# Altium schematic symbol library jlcpcb_2025_04_ferrites_extended_0402.schlib: 536 symbols (part 6 of 10)
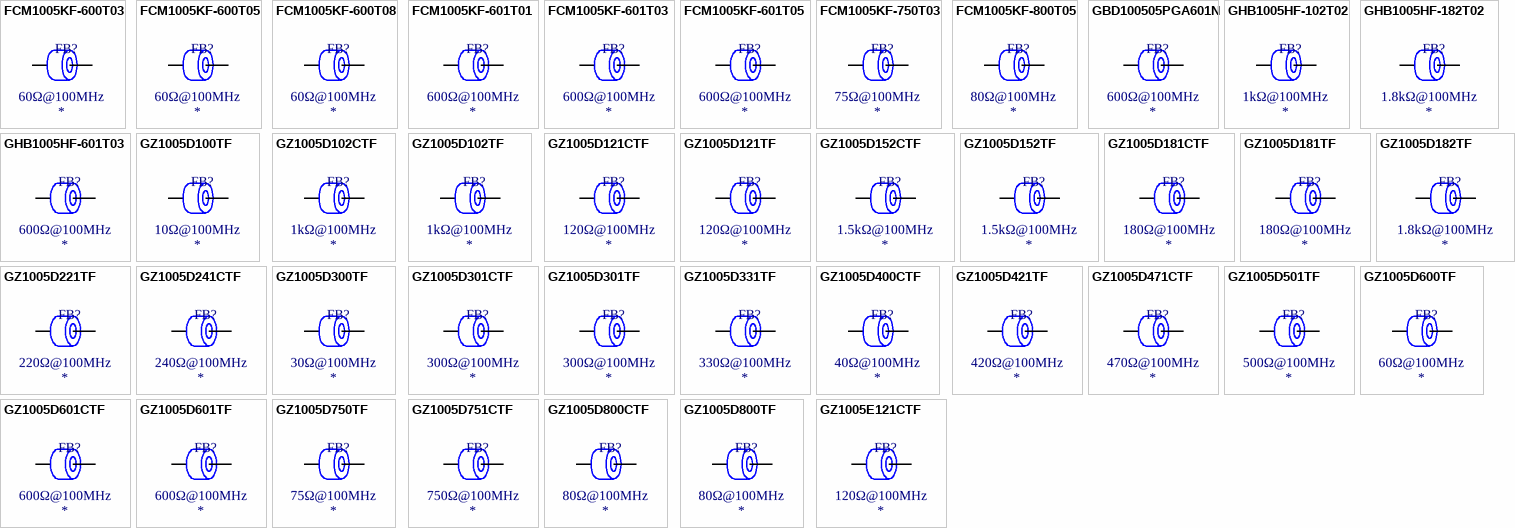
[diagram p18: symbols FCM1005KF-600T03 to GZ1005E121CTF]

## GZ1005D800CTF
designator FB?  Impedance @ Frequency: 80Ω@100MHz
Ferrite, 80Ω@100MHz, ±25%, 160mΩ, 450mA, SMD 0402; Manufacturer: Sunlord; Manufacturer Part Number: GZ1005D800CTF; Package Size: 0402; JLCPCB Basic Part: No; JLCPCB Part Number: C361550; Supplier 1: LCSC; Category: Ferrite Beads; Supplier Part Number 1: C361550; Tolerance: ±25%; Rated Current: 450mA; DC Resistance: 160mΩ; RoHS: Yes; ComponentLink1Description: Datasheet; ComponentLink1URL: https://wmsc.lcsc.com/wmsc/upload/file/pdf/v2/lcsc/2310301640_Sunlord-GZ1005D800CTF_C361550.pdf; ComponentLink2Description: JLCPCB Part URL; ComponentLink2URL: https://jlcpcb.com/partdetail/C361550; ComponentLink3Description: LCSC Part URL; ComponentLink3URL: https://lcsc.com/product-detail/Ferrite-Beads_Sunlord-Sunlord-GZ1005D800CTF_C361550.html
footprint FB-0402 (0402 (1005M) Ferrite)
pins: 1, 2

## GZ1005D800TF
designator FB?  Impedance @ Frequency: 80Ω@100MHz
Ferrite, 80Ω@100MHz, ±25%, 350mΩ, 200mA, SMD 0402; Manufacturer: Sunlord; Manufacturer Part Number: GZ1005D800TF; Package Size: 0402; JLCPCB Basic Part: No; JLCPCB Part Number: C96685; Supplier 1: LCSC; Category: Ferrite Beads; Supplier Part Number 1: C96685; Tolerance: ±25%; Rated Current: 200mA; DC Resistance: 350mΩ; RoHS: Yes; ComponentLink1Description: Datasheet; ComponentLink1URL: https://wmsc.lcsc.com/wmsc/upload/file/pdf/v2/lcsc/2310301640_Sunlord-GZ1005D800TF_C96685.pdf; ComponentLink2Description: JLCPCB Part URL; ComponentLink2URL: https://jlcpcb.com/partdetail/C96685; ComponentLink3Description: LCSC Part URL; ComponentLink3URL: https://lcsc.com/product-detail/Ferrite-Beads_Sunlord-Sunlord-GZ1005D800TF_C96685.html
footprint FB-0402 (0402 (1005M) Ferrite)
pins: 1, 2

## GZ1005E121CTF
designator FB?  Impedance @ Frequency: 120Ω@100MHz
Ferrite, 120Ω@100MHz, ±25%, 250mΩ, 500mA, SMD 0402; Manufacturer: Sunlord; Manufacturer Part Number: GZ1005E121CTF; Package Size: 0402; JLCPCB Basic Part: No; JLCPCB Part Number: C361554; Supplier 1: LCSC; Category: Ferrite Beads; Supplier Part Number 1: C361554; Tolerance: ±25%; Rated Current: 500mA; DC Resistance: 250mΩ; RoHS: Yes; ComponentLink1Description: Datasheet; ComponentLink1URL: https://wmsc.lcsc.com/wmsc/upload/file/pdf/v2/lcsc/2310301640_Sunlord-GZ1005E121CTF_C361554.pdf; ComponentLink2Description: JLCPCB Part URL; ComponentLink2URL: https://jlcpcb.com/partdetail/C361554; ComponentLink3Description: LCSC Part URL; ComponentLink3URL: https://lcsc.com/product-detail/Ferrite-Beads_Sunlord-Sunlord-GZ1005E121CTF_C361554.html
footprint FB-0402 (0402 (1005M) Ferrite)
pins: 1, 2

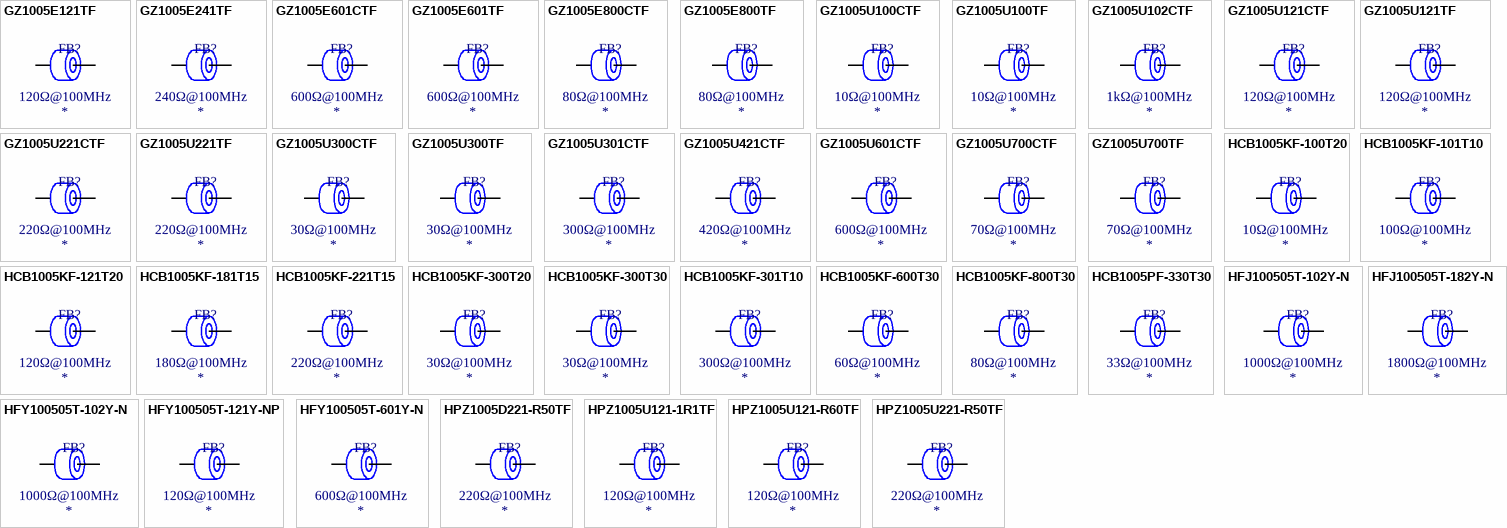
[diagram p7: symbols GZ1005E121TF to HPZ1005U221-R50TF]

## GZ1005E121TF
designator FB?  Impedance @ Frequency: 120Ω@100MHz
Ferrite, 120Ω@100MHz, ±25%, 400mΩ, 200mA, SMD 0402; Manufacturer: Sunlord; Manufacturer Part Number: GZ1005E121TF; Package Size: 0402; JLCPCB Basic Part: No; JLCPCB Part Number: C361514; Supplier 1: LCSC; Category: Ferrite Beads; Supplier Part Number 1: C361514; Tolerance: ±25%; Rated Current: 200mA; DC Resistance: 400mΩ; RoHS: Yes; ComponentLink1Description: Datasheet; ComponentLink1URL: https://wmsc.lcsc.com/wmsc/upload/file/pdf/v2/lcsc/2310301640_Sunlord-GZ1005E121TF_C361514.pdf; ComponentLink2Description: JLCPCB Part URL; ComponentLink2URL: https://jlcpcb.com/partdetail/C361514; ComponentLink3Description: LCSC Part URL; ComponentLink3URL: https://lcsc.com/product-detail/Ferrite-Beads_Sunlord-Sunlord-GZ1005E121TF_C361514.html
footprint FB-0402 (0402 (1005M) Ferrite)
pins: 1, 2

## GZ1005E241TF
designator FB?  Impedance @ Frequency: 240Ω@100MHz
Ferrite, 240Ω@100MHz, ±25%, 500mΩ, 200mA, SMD 0402; Manufacturer: Sunlord; Manufacturer Part Number: GZ1005E241TF; Package Size: 0402; JLCPCB Basic Part: No; JLCPCB Part Number: C279864; Supplier 1: LCSC; Category: Ferrite Beads; Supplier Part Number 1: C279864; Tolerance: ±25%; Rated Current: 200mA; DC Resistance: 500mΩ; RoHS: Yes; ComponentLink1Description: Datasheet; ComponentLink1URL: https://wmsc.lcsc.com/wmsc/upload/file/pdf/v2/lcsc/2310301640_Sunlord-GZ1005E241TF_C279864.pdf; ComponentLink2Description: JLCPCB Part URL; ComponentLink2URL: https://jlcpcb.com/partdetail/C279864; ComponentLink3Description: LCSC Part URL; ComponentLink3URL: https://lcsc.com/product-detail/Ferrite-Beads_Sunlord-Sunlord-GZ1005E241TF_C279864.html
footprint FB-0402 (0402 (1005M) Ferrite)
pins: 1, 2

## GZ1005E601CTF
designator FB?  Impedance @ Frequency: 600Ω@100MHz
Ferrite, 600Ω@100MHz, ±25%, 600mΩ, 300mA, SMD 0402; Manufacturer: Sunlord; Manufacturer Part Number: GZ1005E601CTF; Package Size: 0402; JLCPCB Basic Part: No; JLCPCB Part Number: C361555; Supplier 1: LCSC; Category: Ferrite Beads; Supplier Part Number 1: C361555; Tolerance: ±25%; Rated Current: 300mA; DC Resistance: 600mΩ; RoHS: Yes; ComponentLink1Description: Datasheet; ComponentLink1URL: https://wmsc.lcsc.com/wmsc/upload/file/pdf/v2/lcsc/2310301640_Sunlord-GZ1005E601CTF_C361555.pdf; ComponentLink2Description: JLCPCB Part URL; ComponentLink2URL: https://jlcpcb.com/partdetail/C361555; ComponentLink3Description: LCSC Part URL; ComponentLink3URL: https://lcsc.com/product-detail/Ferrite-Beads_Sunlord-Sunlord-GZ1005E601CTF_C361555.html
footprint FB-0402 (0402 (1005M) Ferrite)
pins: 1, 2

## GZ1005E601TF
designator FB?  Impedance @ Frequency: 600Ω@100MHz
Ferrite, 600Ω@100MHz, ±25%, 900mΩ, 100mA, SMD 0402; Manufacturer: Sunlord; Manufacturer Part Number: GZ1005E601TF; Package Size: 0402; JLCPCB Basic Part: No; JLCPCB Part Number: C98261; Supplier 1: LCSC; Category: Ferrite Beads; Supplier Part Number 1: C98261; Tolerance: ±25%; Rated Current: 100mA; DC Resistance: 900mΩ; RoHS: Yes; ComponentLink1Description: Datasheet; ComponentLink1URL: https://wmsc.lcsc.com/wmsc/upload/file/pdf/v2/lcsc/2310301640_Sunlord-GZ1005E601TF_C98261.pdf; ComponentLink2Description: JLCPCB Part URL; ComponentLink2URL: https://jlcpcb.com/partdetail/C98261; ComponentLink3Description: LCSC Part URL; ComponentLink3URL: https://lcsc.com/product-detail/Ferrite-Beads_Sunlord-Sunlord-GZ1005E601TF_C98261.html
footprint FB-0402 (0402 (1005M) Ferrite)
pins: 1, 2

## GZ1005E800CTF
designator FB?  Impedance @ Frequency: 80Ω@100MHz
Ferrite, 80Ω@100MHz, ±25%, 200mΩ, 500mA, SMD 0402; Manufacturer: Sunlord; Manufacturer Part Number: GZ1005E800CTF; Package Size: 0402; JLCPCB Basic Part: No; JLCPCB Part Number: C361553; Supplier 1: LCSC; Category: Ferrite Beads; Supplier Part Number 1: C361553; Tolerance: ±25%; Rated Current: 500mA; DC Resistance: 200mΩ; RoHS: Yes; ComponentLink1Description: Datasheet; ComponentLink1URL: https://wmsc.lcsc.com/wmsc/upload/file/pdf/v2/lcsc/2310301640_Sunlord-GZ1005E800CTF_C361553.pdf; ComponentLink2Description: JLCPCB Part URL; ComponentLink2URL: https://jlcpcb.com/partdetail/C361553; ComponentLink3Description: LCSC Part URL; ComponentLink3URL: https://lcsc.com/product-detail/Ferrite-Beads_Sunlord-Sunlord-GZ1005E800CTF_C361553.html
footprint FB-0402 (0402 (1005M) Ferrite)
pins: 1, 2

## GZ1005E800TF
designator FB?  Impedance @ Frequency: 80Ω@100MHz
Ferrite, 80Ω@100MHz, ±25%, 350mΩ, 200mA, SMD 0402; Manufacturer: Sunlord; Manufacturer Part Number: GZ1005E800TF; Package Size: 0402; JLCPCB Basic Part: No; JLCPCB Part Number: C361513; Supplier 1: LCSC; Category: Ferrite Beads; Supplier Part Number 1: C361513; Tolerance: ±25%; Rated Current: 200mA; DC Resistance: 350mΩ; RoHS: Yes; ComponentLink1Description: Datasheet; ComponentLink1URL: https://wmsc.lcsc.com/wmsc/upload/file/pdf/v2/lcsc/2310301640_Sunlord-GZ1005E800TF_C361513.pdf; ComponentLink2Description: JLCPCB Part URL; ComponentLink2URL: https://jlcpcb.com/partdetail/C361513; ComponentLink3Description: LCSC Part URL; ComponentLink3URL: https://lcsc.com/product-detail/Ferrite-Beads_Sunlord-Sunlord-GZ1005E800TF_C361513.html
footprint FB-0402 (0402 (1005M) Ferrite)
pins: 1, 2

## GZ1005U100CTF
designator FB?  Impedance @ Frequency: 10Ω@100MHz
Ferrite, 10Ω@100MHz, 30mΩ, 1A, SMD 0402; Manufacturer: Sunlord; Manufacturer Part Number: GZ1005U100CTF; Package Size: 0402; JLCPCB Basic Part: No; JLCPCB Part Number: C96686; Supplier 1: LCSC; Category: Ferrite Beads; Supplier Part Number 1: C96686; Rated Current: 1A; DC Resistance: 30mΩ; RoHS: Yes; ComponentLink1Description: Datasheet; ComponentLink1URL: https://wmsc.lcsc.com/wmsc/upload/file/pdf/v2/lcsc/2310301640_Sunlord-GZ1005U100CTF_C96686.pdf; ComponentLink2Description: JLCPCB Part URL; ComponentLink2URL: https://jlcpcb.com/partdetail/C96686; ComponentLink3Description: LCSC Part URL; ComponentLink3URL: https://lcsc.com/product-detail/Ferrite-Beads_Sunlord-Sunlord-GZ1005U100CTF_C96686.html
pins: 1, 2

## GZ1005U100TF
designator FB?  Impedance @ Frequency: 10Ω@100MHz
Ferrite, 10Ω@100MHz, 50mΩ, 500mA, SMD 0402; Manufacturer: Sunlord; Manufacturer Part Number: GZ1005U100TF; Package Size: 0402; JLCPCB Basic Part: No; JLCPCB Part Number: C279964; Supplier 1: LCSC; Category: Ferrite Beads; Supplier Part Number 1: C279964; Rated Current: 500mA; DC Resistance: 50mΩ; RoHS: Yes; ComponentLink1Description: Datasheet; ComponentLink1URL: https://wmsc.lcsc.com/wmsc/upload/file/pdf/v2/lcsc/2310301640_Sunlord-GZ1005U100TF_C279964.pdf; ComponentLink2Description: JLCPCB Part URL; ComponentLink2URL: https://jlcpcb.com/partdetail/C279964; ComponentLink3Description: LCSC Part URL; ComponentLink3URL: https://lcsc.com/product-detail/Ferrite-Beads_Sunlord-Sunlord-GZ1005U100TF_C279964.html
pins: 1, 2

## GZ1005U102CTF
designator FB?  Impedance @ Frequency: 1kΩ@100MHz
Ferrite, 1kΩ@100MHz, ±25%, 580mΩ, 300mA, SMD 0402; Manufacturer: Sunlord; Manufacturer Part Number: GZ1005U102CTF; Package Size: 0402; JLCPCB Basic Part: No; JLCPCB Part Number: C96687; Supplier 1: LCSC; Category: Ferrite Beads; Supplier Part Number 1: C96687; Tolerance: ±25%; Rated Current: 300mA; DC Resistance: 580mΩ; RoHS: Yes; ComponentLink1Description: Datasheet; ComponentLink1URL: https://wmsc.lcsc.com/wmsc/upload/file/pdf/v2/lcsc/2310301640_Sunlord-GZ1005U102CTF_C96687.pdf; ComponentLink2Description: JLCPCB Part URL; ComponentLink2URL: https://jlcpcb.com/partdetail/C96687; ComponentLink3Description: LCSC Part URL; ComponentLink3URL: https://lcsc.com/product-detail/Ferrite-Beads_Sunlord-Sunlord-GZ1005U102CTF_C96687.html
footprint FB-0402 (0402 (1005M) Ferrite)
pins: 1, 2

## GZ1005U121CTF
designator FB?  Impedance @ Frequency: 120Ω@100MHz
Ferrite, 120Ω@100MHz, ±25%, 200mΩ, 500mA, SMD 0402; Manufacturer: Sunlord; Manufacturer Part Number: GZ1005U121CTF; Package Size: 0402; JLCPCB Basic Part: No; JLCPCB Part Number: C96688; Supplier 1: LCSC; Category: Ferrite Beads; Supplier Part Number 1: C96688; Tolerance: ±25%; Rated Current: 500mA; DC Resistance: 200mΩ; RoHS: Yes; ComponentLink1Description: Datasheet; ComponentLink1URL: https://wmsc.lcsc.com/wmsc/upload/file/pdf/v2/lcsc/2310301640_Sunlord-GZ1005U121CTF_C96688.pdf; ComponentLink2Description: JLCPCB Part URL; ComponentLink2URL: https://jlcpcb.com/partdetail/C96688; ComponentLink3Description: LCSC Part URL; ComponentLink3URL: https://lcsc.com/product-detail/Ferrite-Beads_Sunlord-Sunlord-GZ1005U121CTF_C96688.html
footprint FB-0402 (0402 (1005M) Ferrite)
pins: 1, 2

## GZ1005U121TF
designator FB?  Impedance @ Frequency: 120Ω@100MHz
Ferrite, 120Ω@100MHz, ±25%, 400mΩ, 200mA, SMD 0402; Manufacturer: Sunlord; Manufacturer Part Number: GZ1005U121TF; Package Size: 0402; JLCPCB Basic Part: No; JLCPCB Part Number: C361515; Supplier 1: LCSC; Category: Ferrite Beads; Supplier Part Number 1: C361515; Tolerance: ±25%; Rated Current: 200mA; DC Resistance: 400mΩ; RoHS: Yes; ComponentLink1Description: Datasheet; ComponentLink1URL: https://wmsc.lcsc.com/wmsc/upload/file/pdf/v2/lcsc/2310301640_Sunlord-GZ1005U121TF_C361515.pdf; ComponentLink2Description: JLCPCB Part URL; ComponentLink2URL: https://jlcpcb.com/partdetail/C361515; ComponentLink3Description: LCSC Part URL; ComponentLink3URL: https://lcsc.com/product-detail/Ferrite-Beads_Sunlord-Sunlord-GZ1005U121TF_C361515.html
footprint FB-0402 (0402 (1005M) Ferrite)
pins: 1, 2

## GZ1005U221CTF
designator FB?  Impedance @ Frequency: 220Ω@100MHz
Ferrite, 220Ω@100MHz, ±25%, 300mΩ, 400mA, SMD 0402; Manufacturer: Sunlord; Manufacturer Part Number: GZ1005U221CTF; Package Size: 0402; JLCPCB Basic Part: No; JLCPCB Part Number: C92625; Supplier 1: LCSC; Category: Ferrite Beads; Supplier Part Number 1: C92625; Tolerance: ±25%; Rated Current: 400mA; DC Resistance: 300mΩ; RoHS: Yes; ComponentLink1Description: Datasheet; ComponentLink1URL: https://wmsc.lcsc.com/wmsc/upload/file/pdf/v2/lcsc/2310301640_Sunlord-GZ1005U221CTF_C92625.pdf; ComponentLink2Description: JLCPCB Part URL; ComponentLink2URL: https://jlcpcb.com/partdetail/C92625; ComponentLink3Description: LCSC Part URL; ComponentLink3URL: https://lcsc.com/product-detail/Ferrite-Beads_Sunlord-Sunlord-GZ1005U221CTF_C92625.html
footprint FB-0402 (0402 (1005M) Ferrite)
pins: 1, 2

## GZ1005U221TF
designator FB?  Impedance @ Frequency: 220Ω@100MHz
Ferrite, 220Ω@100MHz, ±25%, 500mΩ, 100mA, SMD 0402; Manufacturer: Sunlord; Manufacturer Part Number: GZ1005U221TF; Package Size: 0402; JLCPCB Basic Part: No; JLCPCB Part Number: C98263; Supplier 1: LCSC; Category: Ferrite Beads; Supplier Part Number 1: C98263; Tolerance: ±25%; Rated Current: 100mA; DC Resistance: 500mΩ; RoHS: Yes; ComponentLink1Description: Datasheet; ComponentLink1URL: https://wmsc.lcsc.com/wmsc/upload/file/pdf/v2/lcsc/2310301640_Sunlord-GZ1005U221TF_C98263.pdf; ComponentLink2Description: JLCPCB Part URL; ComponentLink2URL: https://jlcpcb.com/partdetail/C98263; ComponentLink3Description: LCSC Part URL; ComponentLink3URL: https://lcsc.com/product-detail/Ferrite-Beads_Sunlord-Sunlord-GZ1005U221TF_C98263.html
footprint FB-0402 (0402 (1005M) Ferrite)
pins: 1, 2

## GZ1005U300CTF
designator FB?  Impedance @ Frequency: 30Ω@100MHz
Ferrite, 30Ω@100MHz, ±25%, 60mΩ, 700mA, SMD 0402; Manufacturer: Sunlord; Manufacturer Part Number: GZ1005U300CTF; Package Size: 0402; JLCPCB Basic Part: No; JLCPCB Part Number: C96689; Supplier 1: LCSC; Category: Ferrite Beads; Supplier Part Number 1: C96689; Tolerance: ±25%; Rated Current: 700mA; DC Resistance: 60mΩ; RoHS: Yes; ComponentLink1Description: Datasheet; ComponentLink1URL: https://wmsc.lcsc.com/wmsc/upload/file/pdf/v2/lcsc/2310301640_Sunlord-GZ1005U300CTF_C96689.pdf; ComponentLink2Description: JLCPCB Part URL; ComponentLink2URL: https://jlcpcb.com/partdetail/C96689; ComponentLink3Description: LCSC Part URL; ComponentLink3URL: https://lcsc.com/product-detail/Ferrite-Beads_Sunlord-Sunlord-GZ1005U300CTF_C96689.html
footprint FB-0402 (0402 (1005M) Ferrite)
pins: 1, 2

## GZ1005U300TF
designator FB?  Impedance @ Frequency: 30Ω@100MHz
Ferrite, 30Ω@100MHz, ±25%, 200mΩ, 300mA, SMD 0402; Manufacturer: Sunlord; Manufacturer Part Number: GZ1005U300TF; Package Size: 0402; JLCPCB Basic Part: No; JLCPCB Part Number: C98262; Supplier 1: LCSC; Category: Ferrite Beads; Supplier Part Number 1: C98262; Tolerance: ±25%; Rated Current: 300mA; DC Resistance: 200mΩ; RoHS: Yes; ComponentLink1Description: Datasheet; ComponentLink1URL: https://wmsc.lcsc.com/wmsc/upload/file/pdf/v2/lcsc/2310301640_Sunlord-GZ1005U300TF_C98262.pdf; ComponentLink2Description: JLCPCB Part URL; ComponentLink2URL: https://jlcpcb.com/partdetail/C98262; ComponentLink3Description: LCSC Part URL; ComponentLink3URL: https://lcsc.com/product-detail/Ferrite-Beads_Sunlord-Sunlord-GZ1005U300TF_C98262.html
footprint FB-0402 (0402 (1005M) Ferrite)
pins: 1, 2

## GZ1005U301CTF
designator FB?  Impedance @ Frequency: 300Ω@100MHz
Ferrite, 300Ω@100MHz, ±25%, 500mΩ, 300mA, SMD 0402; Manufacturer: Sunlord; Manufacturer Part Number: GZ1005U301CTF; Package Size: 0402; JLCPCB Basic Part: No; JLCPCB Part Number: C96690; Supplier 1: LCSC; Category: Ferrite Beads; Supplier Part Number 1: C96690; Tolerance: ±25%; Rated Current: 300mA; DC Resistance: 500mΩ; RoHS: Yes; ComponentLink1Description: Datasheet; ComponentLink1URL: https://wmsc.lcsc.com/wmsc/upload/file/pdf/v2/lcsc/2310301640_Sunlord-GZ1005U301CTF_C96690.pdf; ComponentLink2Description: JLCPCB Part URL; ComponentLink2URL: https://jlcpcb.com/partdetail/C96690; ComponentLink3Description: LCSC Part URL; ComponentLink3URL: https://lcsc.com/product-detail/Ferrite-Beads_Sunlord-Sunlord-GZ1005U301CTF_C96690.html
footprint FB-0402 (0402 (1005M) Ferrite)
pins: 1, 2

## GZ1005U421CTF
designator FB?  Impedance @ Frequency: 420Ω@100MHz
Ferrite, 420Ω@100MHz, ±25%, 520mΩ, 300mA, SMD 0402; Manufacturer: Sunlord; Manufacturer Part Number: GZ1005U421CTF; Package Size: 0402; JLCPCB Basic Part: No; JLCPCB Part Number: C361556; Supplier 1: LCSC; Category: Ferrite Beads; Supplier Part Number 1: C361556; Tolerance: ±25%; Rated Current: 300mA; DC Resistance: 520mΩ; RoHS: Yes; ComponentLink1Description: Datasheet; ComponentLink1URL: https://wmsc.lcsc.com/wmsc/upload/file/pdf/v2/lcsc/2310301640_Sunlord-GZ1005U421CTF_C361556.pdf; ComponentLink2Description: JLCPCB Part URL; ComponentLink2URL: https://jlcpcb.com/partdetail/C361556; ComponentLink3Description: LCSC Part URL; ComponentLink3URL: https://lcsc.com/product-detail/Ferrite-Beads_Sunlord-Sunlord-GZ1005U421CTF_C361556.html
footprint FB-0402 (0402 (1005M) Ferrite)
pins: 1, 2

## GZ1005U601CTF
designator FB?  Impedance @ Frequency: 600Ω@100MHz
Ferrite, 600Ω@100MHz, ±25%, 550mΩ, 300mA, SMD 0402; Manufacturer: Sunlord; Manufacturer Part Number: GZ1005U601CTF; Package Size: 0402; JLCPCB Basic Part: No; JLCPCB Part Number: C96691; Supplier 1: LCSC; Category: Ferrite Beads; Supplier Part Number 1: C96691; Tolerance: ±25%; Rated Current: 300mA; DC Resistance: 550mΩ; RoHS: Yes; ComponentLink1Description: Datasheet; ComponentLink1URL: https://wmsc.lcsc.com/wmsc/upload/file/pdf/v2/lcsc/2310301640_Sunlord-GZ1005U601CTF_C96691.pdf; ComponentLink2Description: JLCPCB Part URL; ComponentLink2URL: https://jlcpcb.com/partdetail/C96691; ComponentLink3Description: LCSC Part URL; ComponentLink3URL: https://lcsc.com/product-detail/Ferrite-Beads_Sunlord-Sunlord-GZ1005U601CTF_C96691.html
footprint FB-0402 (0402 (1005M) Ferrite)
pins: 1, 2

## GZ1005U700CTF
designator FB?  Impedance @ Frequency: 70Ω@100MHz
Ferrite, 70Ω@100MHz, ±25%, 100mΩ, 700mA, SMD 0402; Manufacturer: Sunlord; Manufacturer Part Number: GZ1005U700CTF; Package Size: 0402; JLCPCB Basic Part: No; JLCPCB Part Number: C96692; Supplier 1: LCSC; Category: Ferrite Beads; Supplier Part Number 1: C96692; Tolerance: ±25%; Rated Current: 700mA; DC Resistance: 100mΩ; RoHS: Yes; ComponentLink1Description: Datasheet; ComponentLink1URL: https://wmsc.lcsc.com/wmsc/upload/file/pdf/v2/lcsc/2310301640_Sunlord-GZ1005U700CTF_C96692.pdf; ComponentLink2Description: JLCPCB Part URL; ComponentLink2URL: https://jlcpcb.com/partdetail/C96692; ComponentLink3Description: LCSC Part URL; ComponentLink3URL: https://lcsc.com/product-detail/Ferrite-Beads_Sunlord-Sunlord-GZ1005U700CTF_C96692.html
footprint FB-0402 (0402 (1005M) Ferrite)
pins: 1, 2

## GZ1005U700TF
designator FB?  Impedance @ Frequency: 70Ω@100MHz
Ferrite, 70Ω@100MHz, ±25%, 300mΩ, 200mA, SMD 0402; Manufacturer: Sunlord; Manufacturer Part Number: GZ1005U700TF; Package Size: 0402; JLCPCB Basic Part: No; JLCPCB Part Number: C60113; Supplier 1: LCSC; Category: Ferrite Beads; Supplier Part Number 1: C60113; Tolerance: ±25%; Rated Current: 200mA; DC Resistance: 300mΩ; RoHS: Yes; ComponentLink1Description: Datasheet; ComponentLink1URL: https://wmsc.lcsc.com/wmsc/upload/file/pdf/v2/lcsc/2310301640_Sunlord-GZ1005U700TF_C60113.pdf; ComponentLink2Description: JLCPCB Part URL; ComponentLink2URL: https://jlcpcb.com/partdetail/C60113; ComponentLink3Description: LCSC Part URL; ComponentLink3URL: https://lcsc.com/product-detail/Ferrite-Beads_Sunlord-Sunlord-GZ1005U700TF_C60113.html
footprint FB-0402 (0402 (1005M) Ferrite)
pins: 1, 2

## HCB1005KF-100T20
designator FB?  Impedance @ Frequency: 10Ω@100MHz
Ferrite, 10Ω@100MHz, ±25%, 100mΩ, 2A, SMD 0402; Manufacturer: TAI-TECH; Manufacturer Part Number: HCB1005KF-100T20; Package Size: 0402; JLCPCB Basic Part: No; JLCPCB Part Number: C356952; Supplier 1: LCSC; Category: Ferrite Beads; Supplier Part Number 1: C356952; Tolerance: ±25%; Rated Current: 2A; DC Resistance: 100mΩ; RoHS: Yes; ComponentLink1Description: Datasheet; ComponentLink1URL: https://wmsc.lcsc.com/wmsc/upload/file/pdf/v2/lcsc/2009171137_TAI-TECH-HCB1005KF-100T20_C356952.pdf; ComponentLink2Description: JLCPCB Part URL; ComponentLink2URL: https://jlcpcb.com/partdetail/C356952; ComponentLink3Description: LCSC Part URL; ComponentLink3URL: https://lcsc.com/product-detail/Ferrite-Beads_TAI-TECH-TAI-TECH-HCB1005KF-100T20_C356952.html
footprint FB-0402 (0402 (1005M) Ferrite)
pins: 1, 2

## HCB1005KF-101T10
designator FB?  Impedance @ Frequency: 100Ω@100MHz
Ferrite, 100Ω@100MHz, ±25%, 200mΩ, 1A, SMD 0402; Manufacturer: TAI-TECH; Manufacturer Part Number: HCB1005KF-101T10; Package Size: 0402; JLCPCB Basic Part: No; JLCPCB Part Number: C356953; Supplier 1: LCSC; Category: Ferrite Beads; Supplier Part Number 1: C356953; Tolerance: ±25%; Rated Current: 1A; DC Resistance: 200mΩ; RoHS: Yes; ComponentLink1Description: Datasheet; ComponentLink1URL: https://wmsc.lcsc.com/wmsc/upload/file/pdf/v2/lcsc/2009171137_TAI-TECH-HCB1005KF-101T10_C356953.pdf; ComponentLink2Description: JLCPCB Part URL; ComponentLink2URL: https://jlcpcb.com/partdetail/C356953; ComponentLink3Description: LCSC Part URL; ComponentLink3URL: https://lcsc.com/product-detail/Ferrite-Beads_TAI-TECH-TAI-TECH-HCB1005KF-101T10_C356953.html
footprint FB-0402 (0402 (1005M) Ferrite)
pins: 1, 2

## HCB1005KF-121T20
designator FB?  Impedance @ Frequency: 120Ω@100MHz
Ferrite, 120Ω@100MHz, ±25%, 95mΩ, 2A, SMD 0402; Manufacturer: TAI-TECH; Manufacturer Part Number: HCB1005KF-121T20; Package Size: 0402; JLCPCB Basic Part: No; JLCPCB Part Number: C141722; Supplier 1: LCSC; Category: Ferrite Beads; Supplier Part Number 1: C141722; Tolerance: ±25%; Rated Current: 2A; DC Resistance: 95mΩ; RoHS: Yes; ComponentLink1Description: Datasheet; ComponentLink1URL: https://wmsc.lcsc.com/wmsc/upload/file/pdf/v2/lcsc/2009171304_TAI-TECH-HCB1005KF-121T20_C141722.pdf; ComponentLink2Description: JLCPCB Part URL; ComponentLink2URL: https://jlcpcb.com/partdetail/C141722; ComponentLink3Description: LCSC Part URL; ComponentLink3URL: https://lcsc.com/product-detail/Ferrite-Beads_TAI-TECH-TAI-TECH-HCB1005KF-121T20_C141722.html
footprint FB-0402 (0402 (1005M) Ferrite)
pins: 1, 2

## HCB1005KF-181T15
designator FB?  Impedance @ Frequency: 180Ω@100MHz
Ferrite, 180Ω@100MHz, ±25%, 150mΩ, 150mA, SMD 0402; Manufacturer: TAI-TECH; Manufacturer Part Number: HCB1005KF-181T15; Package Size: 0402; JLCPCB Basic Part: No; JLCPCB Part Number: C356955; Supplier 1: LCSC; Category: Ferrite Beads; Supplier Part Number 1: C356955; Tolerance: ±25%; Rated Current: 150mA; DC Resistance: 150mΩ; RoHS: Yes; ComponentLink1Description: Datasheet; ComponentLink1URL: https://wmsc.lcsc.com/wmsc/upload/file/pdf/v2/lcsc/2109061830_TAI-TECH-HCB1005KF-181T15_C356955.pdf; ComponentLink2Description: JLCPCB Part URL; ComponentLink2URL: https://jlcpcb.com/partdetail/C356955; ComponentLink3Description: LCSC Part URL; ComponentLink3URL: https://lcsc.com/product-detail/Ferrite-Beads_TAI-TECH-TAI-TECH-HCB1005KF-181T15_C356955.html
footprint FB-0402 (0402 (1005M) Ferrite)
pins: 1, 2

## HCB1005KF-221T15
designator FB?  Impedance @ Frequency: 220Ω@100MHz
Ferrite, 220Ω@100MHz, ±25%, 150mΩ, 1.5A, SMD 0402; Manufacturer: TAI-TECH; Manufacturer Part Number: HCB1005KF-221T15; Package Size: 0402; JLCPCB Basic Part: No; JLCPCB Part Number: C155102; Supplier 1: LCSC; Category: Ferrite Beads; Supplier Part Number 1: C155102; Tolerance: ±25%; Rated Current: 1.5A; DC Resistance: 150mΩ; RoHS: Yes; ComponentLink1Description: Datasheet; ComponentLink1URL: https://wmsc.lcsc.com/wmsc/upload/file/pdf/v2/lcsc/2009171335_TAI-TECH-HCB1005KF-221T15_C155102.pdf; ComponentLink2Description: JLCPCB Part URL; ComponentLink2URL: https://jlcpcb.com/partdetail/C155102; ComponentLink3Description: LCSC Part URL; ComponentLink3URL: https://lcsc.com/product-detail/Ferrite-Beads_TAI-TECH-TAI-TECH-HCB1005KF-221T15_C155102.html
footprint FB-0402 (0402 (1005M) Ferrite)
pins: 1, 2

## HCB1005KF-300T20
designator FB?  Impedance @ Frequency: 30Ω@100MHz
Ferrite, 30Ω@100MHz, ±25%, 100mΩ, 2A, SMD 0402; Manufacturer: TAI-TECH; Manufacturer Part Number: HCB1005KF-300T20; Package Size: 0402; JLCPCB Basic Part: No; JLCPCB Part Number: C369509; Supplier 1: LCSC; Category: Ferrite Beads; Supplier Part Number 1: C369509; Tolerance: ±25%; Rated Current: 2A; DC Resistance: 100mΩ; RoHS: Yes; ComponentLink1Description: Datasheet; ComponentLink1URL: https://wmsc.lcsc.com/wmsc/upload/file/pdf/v2/lcsc/2009171441_TAI-TECH-HCB1005KF-300T20_C369509.pdf; ComponentLink2Description: JLCPCB Part URL; ComponentLink2URL: https://jlcpcb.com/partdetail/C369509; ComponentLink3Description: LCSC Part URL; ComponentLink3URL: https://lcsc.com/product-detail/Ferrite-Beads_TAI-TECH-TAI-TECH-HCB1005KF-300T20_C369509.html
footprint FB-0402 (0402 (1005M) Ferrite)
pins: 1, 2

## HCB1005KF-300T30
designator FB?  Impedance @ Frequency: 30Ω@100MHz
Ferrite, 30Ω@100MHz, ±25%, 40mΩ, 3A, SMD 0402; Manufacturer: TAI-TECH; Manufacturer Part Number: HCB1005KF-300T30; Package Size: 0402; JLCPCB Basic Part: No; JLCPCB Part Number: C356956; Supplier 1: LCSC; Category: Ferrite Beads; Supplier Part Number 1: C356956; Tolerance: ±25%; Rated Current: 3A; DC Resistance: 40mΩ; RoHS: Yes; ComponentLink1Description: Datasheet; ComponentLink1URL: https://wmsc.lcsc.com/wmsc/upload/file/pdf/v2/lcsc/2009171137_TAI-TECH-HCB1005KF-300T30_C356956.pdf; ComponentLink2Description: JLCPCB Part URL; ComponentLink2URL: https://jlcpcb.com/partdetail/C356956; ComponentLink3Description: LCSC Part URL; ComponentLink3URL: https://lcsc.com/product-detail/Ferrite-Beads_TAI-TECH-TAI-TECH-HCB1005KF-300T30_C356956.html
footprint FB-0402 (0402 (1005M) Ferrite)
pins: 1, 2

## HCB1005KF-301T10
designator FB?  Impedance @ Frequency: 300Ω@100MHz
Ferrite, 300Ω@100MHz, ±25%, 200mΩ, 1A, SMD 0402; Manufacturer: TAI-TECH; Manufacturer Part Number: HCB1005KF-301T10; Package Size: 0402; JLCPCB Basic Part: No; JLCPCB Part Number: C356957; Supplier 1: LCSC; Category: Ferrite Beads; Supplier Part Number 1: C356957; Tolerance: ±25%; Rated Current: 1A; DC Resistance: 200mΩ; RoHS: Yes; ComponentLink1Description: Datasheet; ComponentLink1URL: https://wmsc.lcsc.com/wmsc/upload/file/pdf/v2/lcsc/2009171137_TAI-TECH-HCB1005KF-301T10_C356957.pdf; ComponentLink2Description: JLCPCB Part URL; ComponentLink2URL: https://jlcpcb.com/partdetail/C356957; ComponentLink3Description: LCSC Part URL; ComponentLink3URL: https://lcsc.com/product-detail/Ferrite-Beads_TAI-TECH-TAI-TECH-HCB1005KF-301T10_C356957.html
footprint FB-0402 (0402 (1005M) Ferrite)
pins: 1, 2

## HCB1005KF-600T30
designator FB?  Impedance @ Frequency: 60Ω@100MHz
Ferrite, 60Ω@100MHz, ±25%, 40mΩ, 3A, SMD 0402; Manufacturer: TAI-TECH; Manufacturer Part Number: HCB1005KF-600T30; Package Size: 0402; JLCPCB Basic Part: No; JLCPCB Part Number: C356960; Supplier 1: LCSC; Category: Ferrite Beads; Supplier Part Number 1: C356960; Tolerance: ±25%; Rated Current: 3A; DC Resistance: 40mΩ; RoHS: Yes; ComponentLink1Description: Datasheet; ComponentLink1URL: https://wmsc.lcsc.com/wmsc/upload/file/pdf/v2/lcsc/2009171138_TAI-TECH-HCB1005KF-600T30_C356960.pdf; ComponentLink2Description: JLCPCB Part URL; ComponentLink2URL: https://jlcpcb.com/partdetail/C356960; ComponentLink3Description: LCSC Part URL; ComponentLink3URL: https://lcsc.com/product-detail/Ferrite-Beads_TAI-TECH-TAI-TECH-HCB1005KF-600T30_C356960.html
footprint FB-0402 (0402 (1005M) Ferrite)
pins: 1, 2

## HCB1005KF-800T30
designator FB?  Impedance @ Frequency: 80Ω@100MHz
Ferrite, 80Ω@100MHz, ±25%, 40mΩ, 3A, SMD 0402; Manufacturer: TAI-TECH; Manufacturer Part Number: HCB1005KF-800T30; Package Size: 0402; JLCPCB Basic Part: No; JLCPCB Part Number: C2992343; Supplier 1: LCSC; Category: Ferrite Beads; Supplier Part Number 1: C2992343; Tolerance: ±25%; Rated Current: 3A; DC Resistance: 40mΩ; RoHS: Yes; ComponentLink1Description: Datasheet; ComponentLink1URL: https://wmsc.lcsc.com/wmsc/upload/file/pdf/v2/lcsc/2204251615_TAI-TECH-HCB1005KF-800T30_C2992343.pdf; ComponentLink2Description: JLCPCB Part URL; ComponentLink2URL: https://jlcpcb.com/partdetail/C2992343; ComponentLink3Description: LCSC Part URL; ComponentLink3URL: https://lcsc.com/product-detail/Ferrite-Beads_TAI-TECH-TAI-TECH-HCB1005KF-800T30_C2992343.html
footprint FB-0402 (0402 (1005M) Ferrite)
pins: 1, 2

## HCB1005PF-330T30
designator FB?  Impedance @ Frequency: 33Ω@100MHz
Ferrite, 33Ω@100MHz, ±25%, 22mΩ, 3A, SMD 0402; Manufacturer: TAI-TECH; Manufacturer Part Number: HCB1005PF-330T30; Package Size: 0402; JLCPCB Basic Part: No; JLCPCB Part Number: C155104; Supplier 1: LCSC; Category: Ferrite Beads; Supplier Part Number 1: C155104; Tolerance: ±25%; Rated Current: 3A; DC Resistance: 22mΩ; RoHS: Yes; ComponentLink1Description: Datasheet; ComponentLink1URL: https://wmsc.lcsc.com/wmsc/upload/file/pdf/v2/lcsc/2009171335_TAI-TECH-HCB1005PF-330T30_C155104.pdf; ComponentLink2Description: JLCPCB Part URL; ComponentLink2URL: https://jlcpcb.com/partdetail/C155104; ComponentLink3Description: LCSC Part URL; ComponentLink3URL: https://lcsc.com/product-detail/Ferrite-Beads_TAI-TECH-TAI-TECH-HCB1005PF-330T30_C155104.html
footprint FB-0402 (0402 (1005M) Ferrite)
pins: 1, 2

## HFJ100505T-102Y-N
designator FB?  Impedance @ Frequency: 1000Ω@100MHz
Ferrite, 1000Ω@100MHz, ±25%, 1.25Ω, 250mA, SMD 0402; Manufacturer: Chilisin Elec; Manufacturer Part Number: HFJ100505T-102Y-N; Package Size: 0402; JLCPCB Basic Part: No; JLCPCB Part Number: C365845; Supplier 1: LCSC; Category: Ferrite Beads; Supplier Part Number 1: C365845; Tolerance: ±25%; Rated Current: 250mA; DC Resistance: 1.25Ω; RoHS: Yes; ComponentLink1Description: Datasheet; ComponentLink1URL: https://wmsc.lcsc.com/wmsc/upload/file/pdf/v2/lcsc/1912111437_Chilisin-Elec-HFJ100505T-102Y-N_C365845.pdf; ComponentLink2Description: JLCPCB Part URL; ComponentLink2URL: https://jlcpcb.com/partdetail/C365845; ComponentLink3Description: LCSC Part URL; ComponentLink3URL: https://lcsc.com/product-detail/Ferrite-Beads_Chilisin-Elec-Chilisin-Elec-HFJ100505T-102Y-N_C365845.html
footprint FB-0402 (0402 (1005M) Ferrite)
pins: 1, 2

## HFJ100505T-182Y-N
designator FB?  Impedance @ Frequency: 1800Ω@100MHz
Ferrite, 1800Ω@100MHz, ±25%, 2.2Ω, 200mA, SMD 0402; Manufacturer: Chilisin Elec; Manufacturer Part Number: HFJ100505T-182Y-N; Package Size: 0402; JLCPCB Basic Part: No; JLCPCB Part Number: C285912; Supplier 1: LCSC; Category: Ferrite Beads; Supplier Part Number 1: C285912; Tolerance: ±25%; Rated Current: 200mA; DC Resistance: 2.2Ω; RoHS: Yes; ComponentLink1Description: Datasheet; ComponentLink1URL: https://wmsc.lcsc.com/wmsc/upload/file/pdf/v2/lcsc/1912111437_Chilisin-Elec-HFJ100505T-182Y-N_C285912.pdf; ComponentLink2Description: JLCPCB Part URL; ComponentLink2URL: https://jlcpcb.com/partdetail/C285912; ComponentLink3Description: LCSC Part URL; ComponentLink3URL: https://lcsc.com/product-detail/Ferrite-Beads_Chilisin-Elec-Chilisin-Elec-HFJ100505T-182Y-N_C285912.html
footprint FB-0402 (0402 (1005M) Ferrite)
pins: 1, 2

## HFY100505T-102Y-N
designator FB?  Impedance @ Frequency: 1000Ω@100MHz
Ferrite, 1000Ω@100MHz, ±25%, 1.1Ω, 250mA, SMD 0402; Manufacturer: Chilisin Elec; Manufacturer Part Number: HFY100505T-102Y-N; Package Size: 0402; JLCPCB Basic Part: No; JLCPCB Part Number: C108276; Supplier 1: LCSC; Category: Ferrite Beads; Supplier Part Number 1: C108276; Tolerance: ±25%; Rated Current: 250mA; DC Resistance: 1.1Ω; RoHS: Yes; ComponentLink1Description: Datasheet; ComponentLink1URL: https://wmsc.lcsc.com/wmsc/upload/file/pdf/v2/lcsc/1811141628_Chilisin-Elec-HFY100505T-102Y-N_C108276.pdf; ComponentLink2Description: JLCPCB Part URL; ComponentLink2URL: https://jlcpcb.com/partdetail/C108276; ComponentLink3Description: LCSC Part URL; ComponentLink3URL: https://lcsc.com/product-detail/Ferrite-Beads_Chilisin-Elec-Chilisin-Elec-HFY100505T-102Y-N_C108276.html
footprint FB-0402 (0402 (1005M) Ferrite)
pins: 1, 2

## HFY100505T-121Y-NP
designator FB?  Impedance @ Frequency: 120Ω@100MHz
Ferrite, 120Ω@100MHz, ±25%, 0.095Ω, 1500mA, SMD 0402; Manufacturer: Chilisin Elec; Manufacturer Part Number: HFY100505T-121Y-NP; Package Size: 0402; JLCPCB Basic Part: No; JLCPCB Part Number: C108277; Supplier 1: LCSC; Category: Ferrite Beads; Supplier Part Number 1: C108277; Tolerance: ±25%; Rated Current: 1500mA; DC Resistance: 0.095Ω; RoHS: Yes; ComponentLink1Description: Datasheet; ComponentLink1URL: https://wmsc.lcsc.com/wmsc/upload/file/pdf/v2/lcsc/1811141628_Chilisin-Elec-HFY100505T-121Y-NP_C108277.pdf; ComponentLink2Description: JLCPCB Part URL; ComponentLink2URL: https://jlcpcb.com/partdetail/C108277; ComponentLink3Description: LCSC Part URL; ComponentLink3URL: https://lcsc.com/product-detail/Ferrite-Beads_Chilisin-Elec-Chilisin-Elec-HFY100505T-121Y-NP_C108277.html
footprint FB-0402 (0402 (1005M) Ferrite)
pins: 1, 2

## HFY100505T-601Y-N
designator FB?  Impedance @ Frequency: 600Ω@100MHz
Ferrite, 600Ω@100MHz, ±25%, 0.7Ω, 300mA, SMD 0402; Manufacturer: Chilisin Elec; Manufacturer Part Number: HFY100505T-601Y-N; Package Size: 0402; JLCPCB Basic Part: No; JLCPCB Part Number: C142161; Supplier 1: LCSC; Category: Ferrite Beads; Supplier Part Number 1: C142161; Tolerance: ±25%; Rated Current: 300mA; DC Resistance: 0.7Ω; RoHS: Yes; ComponentLink1Description: Datasheet; ComponentLink1URL: https://wmsc.lcsc.com/wmsc/upload/file/pdf/v2/lcsc/1811141612_Chilisin-Elec-HFY100505T-601Y-N_C142161.pdf; ComponentLink2Description: JLCPCB Part URL; ComponentLink2URL: https://jlcpcb.com/partdetail/C142161; ComponentLink3Description: LCSC Part URL; ComponentLink3URL: https://lcsc.com/product-detail/Ferrite-Beads_Chilisin-Elec-Chilisin-Elec-HFY100505T-601Y-N_C142161.html
footprint FB-0402 (0402 (1005M) Ferrite)
pins: 1, 2

## HPZ1005D221-R50TF
designator FB?  Impedance @ Frequency: 220Ω@100MHz
Ferrite, 220Ω@100MHz, ±25%, 380mΩ, 500mA, SMD 0402; Manufacturer: Sunlord; Manufacturer Part Number: HPZ1005D221-R50TF; Package Size: 0402; JLCPCB Basic Part: No; JLCPCB Part Number: C369802; Supplier 1: LCSC; Category: Ferrite Beads; Supplier Part Number 1: C369802; Tolerance: ±25%; Rated Current: 500mA; DC Resistance: 380mΩ; RoHS: Yes; ComponentLink1Description: Datasheet; ComponentLink1URL: https://wmsc.lcsc.com/wmsc/upload/file/pdf/v2/lcsc/2310301509_Sunlord-HPZ1005D221-R50TF_C369802.pdf; ComponentLink2Description: JLCPCB Part URL; ComponentLink2URL: https://jlcpcb.com/partdetail/C369802; ComponentLink3Description: LCSC Part URL; ComponentLink3URL: https://lcsc.com/product-detail/Ferrite-Beads_Sunlord-Sunlord-HPZ1005D221-R50TF_C369802.html
footprint FB-0402 (0402 (1005M) Ferrite)
pins: 1, 2

## HPZ1005U121-1R1TF
designator FB?  Impedance @ Frequency: 120Ω@100MHz
Ferrite, 120Ω@100MHz, ±25%, 130mΩ, 1.1A, SMD 0402; Manufacturer: Sunlord; Manufacturer Part Number: HPZ1005U121-1R1TF; Package Size: 0402; JLCPCB Basic Part: No; JLCPCB Part Number: C185886; Supplier 1: LCSC; Category: Ferrite Beads; Supplier Part Number 1: C185886; Tolerance: ±25%; Rated Current: 1.1A; DC Resistance: 130mΩ; RoHS: Yes; ComponentLink1Description: Datasheet; ComponentLink1URL: https://wmsc.lcsc.com/wmsc/upload/file/pdf/v2/lcsc/2310301640_Sunlord-HPZ1005U121-1R1TF_C185886.pdf; ComponentLink2Description: JLCPCB Part URL; ComponentLink2URL: https://jlcpcb.com/partdetail/C185886; ComponentLink3Description: LCSC Part URL; ComponentLink3URL: https://lcsc.com/product-detail/Ferrite-Beads_Sunlord-Sunlord-HPZ1005U121-1R1TF_C185886.html
footprint FB-0402 (0402 (1005M) Ferrite)
pins: 1, 2

## HPZ1005U121-R60TF
designator FB?  Impedance @ Frequency: 120Ω@100MHz
Ferrite, 120Ω@100MHz, ±25%, 250mΩ, 600mA, SMD 0402; Manufacturer: Sunlord; Manufacturer Part Number: HPZ1005U121-R60TF; Package Size: 0402; JLCPCB Basic Part: No; JLCPCB Part Number: C369803; Supplier 1: LCSC; Category: Ferrite Beads; Supplier Part Number 1: C369803; Tolerance: ±25%; Rated Current: 600mA; DC Resistance: 250mΩ; RoHS: Yes; ComponentLink1Description: Datasheet; ComponentLink1URL: https://wmsc.lcsc.com/wmsc/upload/file/pdf/v2/lcsc/2310301640_Sunlord-HPZ1005U121-R60TF_C369803.pdf; ComponentLink2Description: JLCPCB Part URL; ComponentLink2URL: https://jlcpcb.com/partdetail/C369803; ComponentLink3Description: LCSC Part URL; ComponentLink3URL: https://lcsc.com/product-detail/Ferrite-Beads_Sunlord-Sunlord-HPZ1005U121-R60TF_C369803.html
footprint FB-0402 (0402 (1005M) Ferrite)
pins: 1, 2

## HPZ1005U221-R50TF
designator FB?  Impedance @ Frequency: 220Ω@100MHz
Ferrite, 220Ω@100MHz, ±25%, 380mΩ, 500mA, SMD 0402; Manufacturer: Sunlord; Manufacturer Part Number: HPZ1005U221-R50TF; Package Size: 0402; JLCPCB Basic Part: No; JLCPCB Part Number: C279857; Supplier 1: LCSC; Category: Ferrite Beads; Supplier Part Number 1: C279857; Tolerance: ±25%; Rated Current: 500mA; DC Resistance: 380mΩ; RoHS: Yes; ComponentLink1Description: Datasheet; ComponentLink1URL: https://wmsc.lcsc.com/wmsc/upload/file/pdf/v2/lcsc/2310301640_Sunlord-HPZ1005U221-R50TF_C279857.pdf; ComponentLink2Description: JLCPCB Part URL; ComponentLink2URL: https://jlcpcb.com/partdetail/C279857; ComponentLink3Description: LCSC Part URL; ComponentLink3URL: https://lcsc.com/product-detail/Ferrite-Beads_Sunlord-Sunlord-HPZ1005U221-R50TF_C279857.html
footprint FB-0402 (0402 (1005M) Ferrite)
pins: 1, 2

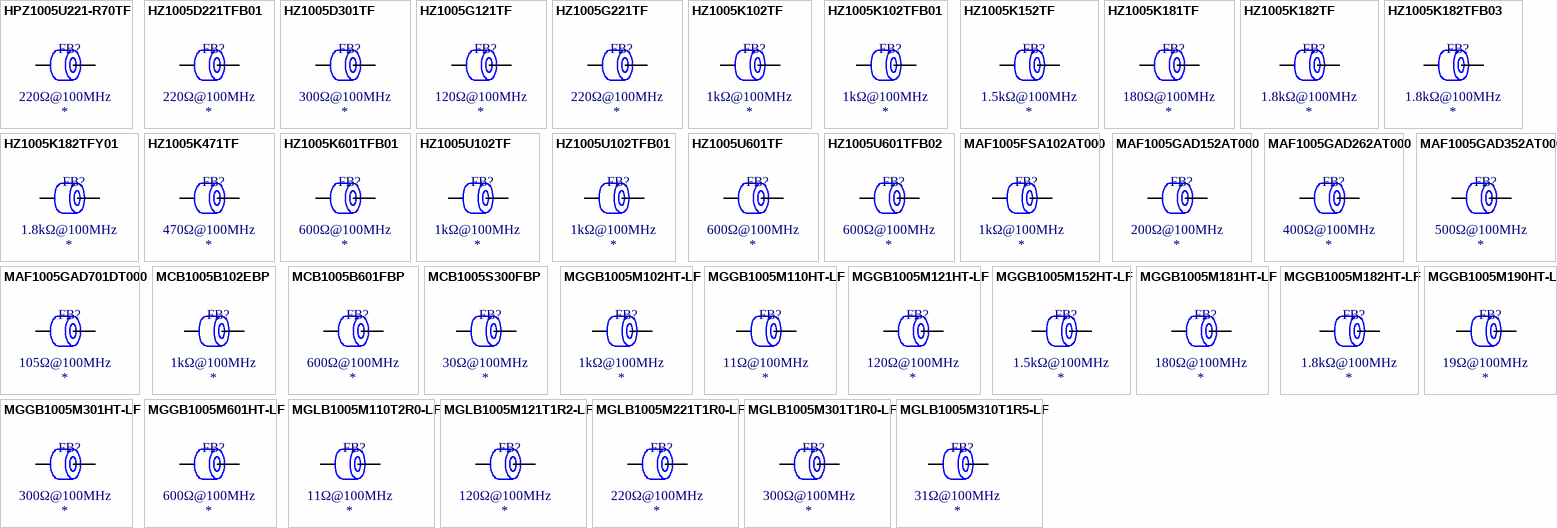
[diagram p8: symbols HPZ1005U221-R70TF to MGLB1005M310T1R5-LF]

## HPZ1005U221-R70TF
designator FB?  Impedance @ Frequency: 220Ω@100MHz
Ferrite, 220Ω@100MHz, ±25%, 700mΩ, 250mA, SMD 0402; Manufacturer: Sunlord; Manufacturer Part Number: HPZ1005U221-R70TF; Package Size: 0402; JLCPCB Basic Part: No; JLCPCB Part Number: C154130; Supplier 1: LCSC; Category: Ferrite Beads; Supplier Part Number 1: C154130; Tolerance: ±25%; Rated Current: 250mA; DC Resistance: 700mΩ; RoHS: Yes; ComponentLink1Description: Datasheet; ComponentLink1URL: https://wmsc.lcsc.com/wmsc/upload/file/pdf/v2/lcsc/2310301640_Sunlord-HPZ1005U221-R70TF_C154130.pdf; ComponentLink2Description: JLCPCB Part URL; ComponentLink2URL: https://jlcpcb.com/partdetail/C154130; ComponentLink3Description: LCSC Part URL; ComponentLink3URL: https://lcsc.com/product-detail/Ferrite-Beads_Sunlord-Sunlord-HPZ1005U221-R70TF_C154130.html
footprint FB-0402 (0402 (1005M) Ferrite)
pins: 1, 2

## HZ1005D221TFB01
designator FB?  Impedance @ Frequency: 220Ω@100MHz
Ferrite, 220Ω@100MHz, ±25%, 500mΩ, 300mA, SMD 0402; Manufacturer: Sunlord; Manufacturer Part Number: HZ1005D221TFB01; Package Size: 0402; JLCPCB Basic Part: No; JLCPCB Part Number: C185880; Supplier 1: LCSC; Category: Ferrite Beads; Supplier Part Number 1: C185880; Tolerance: ±25%; Rated Current: 300mA; DC Resistance: 500mΩ; RoHS: Yes; ComponentLink1Description: Datasheet; ComponentLink1URL: https://wmsc.lcsc.com/wmsc/upload/file/pdf/v2/lcsc/2310301640_Sunlord-HZ1005D221TFB01_C185880.pdf; ComponentLink2Description: JLCPCB Part URL; ComponentLink2URL: https://jlcpcb.com/partdetail/C185880; ComponentLink3Description: LCSC Part URL; ComponentLink3URL: https://lcsc.com/product-detail/Ferrite-Beads_Sunlord-Sunlord-HZ1005D221TFB01_C185880.html
footprint FB-0402 (0402 (1005M) Ferrite)
pins: 1, 2

## HZ1005D301TF
designator FB?  Impedance @ Frequency: 300Ω@100MHz
Ferrite, 300Ω@100MHz, ±25%, 1Ω, 100mA, SMD 0402; Manufacturer: Sunlord; Manufacturer Part Number: HZ1005D301TF; Package Size: 0402; JLCPCB Basic Part: No; JLCPCB Part Number: C185881; Supplier 1: LCSC; Category: Ferrite Beads; Supplier Part Number 1: C185881; Tolerance: ±25%; Rated Current: 100mA; DC Resistance: 1Ω; RoHS: Yes; ComponentLink1Description: Datasheet; ComponentLink1URL: https://wmsc.lcsc.com/wmsc/upload/file/pdf/v2/lcsc/2310301640_Sunlord-HZ1005D301TF_C185881.pdf; ComponentLink2Description: JLCPCB Part URL; ComponentLink2URL: https://jlcpcb.com/partdetail/C185881; ComponentLink3Description: LCSC Part URL; ComponentLink3URL: https://lcsc.com/product-detail/Ferrite-Beads_Sunlord-Sunlord-HZ1005D301TF_C185881.html
footprint FB-0402 (0402 (1005M) Ferrite)
pins: 1, 2

## HZ1005G121TF
designator FB?  Impedance @ Frequency: 120Ω@100MHz
Ferrite, 120Ω@100MHz, ±25%, 700mΩ, 300mA, SMD 0402; Manufacturer: Sunlord; Manufacturer Part Number: HZ1005G121TF; Package Size: 0402; JLCPCB Basic Part: No; JLCPCB Part Number: C185879; Supplier 1: LCSC; Category: Ferrite Beads; Supplier Part Number 1: C185879; Tolerance: ±25%; Rated Current: 300mA; DC Resistance: 700mΩ; RoHS: Yes; ComponentLink1Description: Datasheet; ComponentLink1URL: https://wmsc.lcsc.com/wmsc/upload/file/pdf/v2/lcsc/2310301640_Sunlord-HZ1005G121TF_C185879.pdf; ComponentLink2Description: JLCPCB Part URL; ComponentLink2URL: https://jlcpcb.com/partdetail/C185879; ComponentLink3Description: LCSC Part URL; ComponentLink3URL: https://lcsc.com/product-detail/Ferrite-Beads_Sunlord-Sunlord-HZ1005G121TF_C185879.html
footprint FB-0402 (0402 (1005M) Ferrite)
pins: 1, 2

## HZ1005G221TF
designator FB?  Impedance @ Frequency: 220Ω@100MHz
Ferrite, 220Ω@100MHz, ±25%, 1Ω, 250mA, SMD 0402; Manufacturer: Sunlord; Manufacturer Part Number: HZ1005G221TF; Package Size: 0402; JLCPCB Basic Part: No; JLCPCB Part Number: C369807; Supplier 1: LCSC; Category: Ferrite Beads; Supplier Part Number 1: C369807; Tolerance: ±25%; Rated Current: 250mA; DC Resistance: 1Ω; RoHS: Yes; ComponentLink1Description: Datasheet; ComponentLink1URL: https://wmsc.lcsc.com/wmsc/upload/file/pdf/v2/lcsc/2310301640_Sunlord-HZ1005G221TF_C369807.pdf; ComponentLink2Description: JLCPCB Part URL; ComponentLink2URL: https://jlcpcb.com/partdetail/C369807; ComponentLink3Description: LCSC Part URL; ComponentLink3URL: https://lcsc.com/product-detail/Ferrite-Beads_Sunlord-Sunlord-HZ1005G221TF_C369807.html
footprint FB-0402 (0402 (1005M) Ferrite)
pins: 1, 2

## HZ1005K102TF
designator FB?  Impedance @ Frequency: 1kΩ@100MHz
Ferrite, 1kΩ@100MHz, ±25%, 1.25Ω, 250mA, SMD 0402; Manufacturer: Sunlord; Manufacturer Part Number: HZ1005K102TF; Package Size: 0402; JLCPCB Basic Part: No; JLCPCB Part Number: C98296; Supplier 1: LCSC; Category: Ferrite Beads; Supplier Part Number 1: C98296; Tolerance: ±25%; Rated Current: 250mA; DC Resistance: 1.25Ω; RoHS: Yes; ComponentLink1Description: Datasheet; ComponentLink1URL: https://wmsc.lcsc.com/wmsc/upload/file/pdf/v2/lcsc/2310301640_Sunlord-HZ1005K102TF_C98296.pdf; ComponentLink2Description: JLCPCB Part URL; ComponentLink2URL: https://jlcpcb.com/partdetail/C98296; ComponentLink3Description: LCSC Part URL; ComponentLink3URL: https://lcsc.com/product-detail/Ferrite-Beads_Sunlord-Sunlord-HZ1005K102TF_C98296.html
footprint FB-0402 (0402 (1005M) Ferrite)
pins: 1, 2

## HZ1005K102TFB01
designator FB?  Impedance @ Frequency: 1kΩ@100MHz
Ferrite, 1kΩ@100MHz, ±25%, 1.25Ω, 250mA, SMD 0402; Manufacturer: Sunlord; Manufacturer Part Number: HZ1005K102TFB01; Package Size: 0402; JLCPCB Basic Part: No; JLCPCB Part Number: C154129; Supplier 1: LCSC; Category: Ferrite Beads; Supplier Part Number 1: C154129; Tolerance: ±25%; Rated Current: 250mA; DC Resistance: 1.25Ω; RoHS: Yes; ComponentLink1Description: Datasheet; ComponentLink1URL: https://wmsc.lcsc.com/wmsc/upload/file/pdf/v2/lcsc/2310301640_Sunlord-HZ1005K102TFB01_C154129.pdf; ComponentLink2Description: JLCPCB Part URL; ComponentLink2URL: https://jlcpcb.com/partdetail/C154129; ComponentLink3Description: LCSC Part URL; ComponentLink3URL: https://lcsc.com/product-detail/Ferrite-Beads_Sunlord-Sunlord-HZ1005K102TFB01_C154129.html
footprint FB-0402 (0402 (1005M) Ferrite)
pins: 1, 2

## HZ1005K152TF
designator FB?  Impedance @ Frequency: 1.5kΩ@100MHz
Ferrite, 1.5kΩ@100MHz, ±25%, 2.2Ω, 50mA, SMD 0402; Manufacturer: Sunlord; Manufacturer Part Number: HZ1005K152TF; Package Size: 0402; JLCPCB Basic Part: No; JLCPCB Part Number: C185874; Supplier 1: LCSC; Category: Ferrite Beads; Supplier Part Number 1: C185874; Tolerance: ±25%; Rated Current: 50mA; DC Resistance: 2.2Ω; RoHS: Yes; ComponentLink1Description: Datasheet; ComponentLink1URL: https://wmsc.lcsc.com/wmsc/upload/file/pdf/v2/lcsc/2310301640_Sunlord-HZ1005K152TF_C185874.pdf; ComponentLink2Description: JLCPCB Part URL; ComponentLink2URL: https://jlcpcb.com/partdetail/C185874; ComponentLink3Description: LCSC Part URL; ComponentLink3URL: https://lcsc.com/product-detail/Ferrite-Beads_Sunlord-Sunlord-HZ1005K152TF_C185874.html
footprint FB-0402 (0402 (1005M) Ferrite)
pins: 1, 2

## HZ1005K181TF
designator FB?  Impedance @ Frequency: 180Ω@100MHz
Ferrite, 180Ω@100MHz, ±25%, 1Ω, 100mA, SMD 0402; Manufacturer: Sunlord; Manufacturer Part Number: HZ1005K181TF; Package Size: 0402; JLCPCB Basic Part: No; JLCPCB Part Number: C185883; Supplier 1: LCSC; Category: Ferrite Beads; Supplier Part Number 1: C185883; Tolerance: ±25%; Rated Current: 100mA; DC Resistance: 1Ω; RoHS: Yes; ComponentLink1Description: Datasheet; ComponentLink1URL: https://wmsc.lcsc.com/wmsc/upload/file/pdf/v2/lcsc/2310301640_Sunlord-HZ1005K181TF_C185883.pdf; ComponentLink2Description: JLCPCB Part URL; ComponentLink2URL: https://jlcpcb.com/partdetail/C185883; ComponentLink3Description: LCSC Part URL; ComponentLink3URL: https://lcsc.com/product-detail/Ferrite-Beads_Sunlord-Sunlord-HZ1005K181TF_C185883.html
footprint FB-0402 (0402 (1005M) Ferrite)
pins: 1, 2

## HZ1005K182TF
designator FB?  Impedance @ Frequency: 1.8kΩ@100MHz
Ferrite, 1.8kΩ@100MHz, ±25%, SMD 0402; Manufacturer: Sunlord; Manufacturer Part Number: HZ1005K182TF; Package Size: 0402; JLCPCB Basic Part: No; JLCPCB Part Number: C370004; Supplier 1: LCSC; Category: Ferrite Beads; Supplier Part Number 1: C370004; Tolerance: ±25%; RoHS: Yes; ComponentLink1Description: Datasheet; ComponentLink1URL: https://wmsc.lcsc.com/wmsc/upload/file/pdf/v2/lcsc/2310301640_Sunlord-HZ1005K182TF_C370004.pdf; ComponentLink2Description: JLCPCB Part URL; ComponentLink2URL: https://jlcpcb.com/partdetail/C370004; ComponentLink3Description: LCSC Part URL; ComponentLink3URL: https://lcsc.com/product-detail/Ferrite-Beads_Sunlord-Sunlord-HZ1005K182TF_C370004.html
pins: 1, 2

## HZ1005K182TFB03
designator FB?  Impedance @ Frequency: 1.8kΩ@100MHz
Ferrite, 1.8kΩ@100MHz, ±25%, 2.2Ω, 200mA, SMD 0402; Manufacturer: Sunlord; Manufacturer Part Number: HZ1005K182TFB03; Package Size: 0402; JLCPCB Basic Part: No; JLCPCB Part Number: C279553; Supplier 1: LCSC; Category: Ferrite Beads; Supplier Part Number 1: C279553; Tolerance: ±25%; Rated Current: 200mA; DC Resistance: 2.2Ω; RoHS: Yes; ComponentLink1Description: Datasheet; ComponentLink1URL: https://wmsc.lcsc.com/wmsc/upload/file/pdf/v2/lcsc/2310301640_Sunlord-HZ1005K182TFB03_C279553.pdf; ComponentLink2Description: JLCPCB Part URL; ComponentLink2URL: https://jlcpcb.com/partdetail/C279553; ComponentLink3Description: LCSC Part URL; ComponentLink3URL: https://lcsc.com/product-detail/Ferrite-Beads_Sunlord-Sunlord-HZ1005K182TFB03_C279553.html
footprint FB-0402 (0402 (1005M) Ferrite)
pins: 1, 2

## HZ1005K182TFY01
designator FB?  Impedance @ Frequency: 1.8kΩ@100MHz
Ferrite, 1.8kΩ@100MHz, ±25%, SMD 0402; Manufacturer: Sunlord; Manufacturer Part Number: HZ1005K182TFY01; Package Size: 0402; JLCPCB Basic Part: No; JLCPCB Part Number: C370005; Supplier 1: LCSC; Category: Ferrite Beads; Supplier Part Number 1: C370005; Tolerance: ±25%; RoHS: Yes; ComponentLink1Description: Datasheet; ComponentLink1URL: https://wmsc.lcsc.com/wmsc/upload/file/pdf/v2/lcsc/2310301640_Sunlord-HZ1005K182TFY01_C370005.pdf; ComponentLink2Description: JLCPCB Part URL; ComponentLink2URL: https://jlcpcb.com/partdetail/C370005; ComponentLink3Description: LCSC Part URL; ComponentLink3URL: https://lcsc.com/product-detail/Ferrite-Beads_Sunlord-Sunlord-HZ1005K182TFY01_C370005.html
pins: 1, 2

## HZ1005K471TF
designator FB?  Impedance @ Frequency: 470Ω@100MHz
Ferrite, 470Ω@100MHz, ±25%, 1.3Ω, 100mA, SMD 0402; Manufacturer: Sunlord; Manufacturer Part Number: HZ1005K471TF; Package Size: 0402; JLCPCB Basic Part: No; JLCPCB Part Number: C185885; Supplier 1: LCSC; Category: Ferrite Beads; Supplier Part Number 1: C185885; Tolerance: ±25%; Rated Current: 100mA; DC Resistance: 1.3Ω; RoHS: Yes; ComponentLink1Description: Datasheet; ComponentLink1URL: https://wmsc.lcsc.com/wmsc/upload/file/pdf/v2/lcsc/2310301640_Sunlord-HZ1005K471TF_C185885.pdf; ComponentLink2Description: JLCPCB Part URL; ComponentLink2URL: https://jlcpcb.com/partdetail/C185885; ComponentLink3Description: LCSC Part URL; ComponentLink3URL: https://lcsc.com/product-detail/Ferrite-Beads_Sunlord-Sunlord-HZ1005K471TF_C185885.html
footprint FB-0402 (0402 (1005M) Ferrite)
pins: 1, 2

## HZ1005K601TFB01
designator FB?  Impedance @ Frequency: 600Ω@100MHz
Ferrite, 600Ω@100MHz, ±25%, 850mΩ, 300mA, SMD 0402; Manufacturer: Sunlord; Manufacturer Part Number: HZ1005K601TFB01; Package Size: 0402; JLCPCB Basic Part: No; JLCPCB Part Number: C154128; Supplier 1: LCSC; Category: Ferrite Beads; Supplier Part Number 1: C154128; Tolerance: ±25%; Rated Current: 300mA; DC Resistance: 850mΩ; RoHS: Yes; ComponentLink1Description: Datasheet; ComponentLink1URL: https://wmsc.lcsc.com/wmsc/upload/file/pdf/v2/lcsc/2310301640_Sunlord-HZ1005K601TFB01_C154128.pdf; ComponentLink2Description: JLCPCB Part URL; ComponentLink2URL: https://jlcpcb.com/partdetail/C154128; ComponentLink3Description: LCSC Part URL; ComponentLink3URL: https://lcsc.com/product-detail/Ferrite-Beads_Sunlord-Sunlord-HZ1005K601TFB01_C154128.html
footprint FB-0402 (0402 (1005M) Ferrite)
pins: 1, 2